# Altium footprint library Switch.PcbLib: 1 footprints
Each footprint in its own frame and in the unit in brackets; x right, y up, seen from the top. Pads: shape width x height; smd on the part's side, far side on the other; paste and mask are expansions set on the pad; w line width, h text height; cw(c..) or ccw(c..) is an arc to the next point about the centre after c.
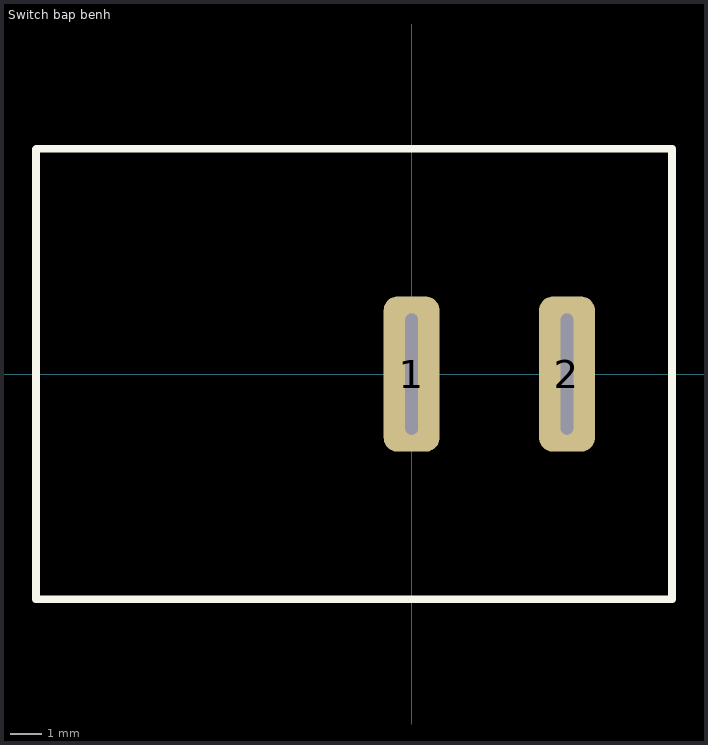
[diagram p0: the footprint, top view; thin cyan lines are the x and y axes]

## Switch bap benh [mm]
pads (2):
  rrect50% 1.8x5 hole 3.9 slot 0.4 at 0 deg: 1(0,0) 2(5,0)
Top Overlay:
  lines w0.254: -12.097,-7.247 8.382,-7.247 8.386,-7.243 8.386,7.245 8.38,7.251 -12.083,7.251 -12.097,7.237 -12.097,-7.247
3D body "Switch.stp": height 6, standoff -17.22, extent -12.104,-7.249 8.396,7.251